# Altium footprint library Battery Holders.PcbLib: 1 footprints
Each footprint in its own frame and in the unit in brackets; x right, y up, seen from the top. Pads: shape width x height; smd on the part's side, far side on the other; paste and mask are expansions set on the pad; w line width, h text height; cw(c..) or ccw(c..) is an arc to the next point about the centre after c.
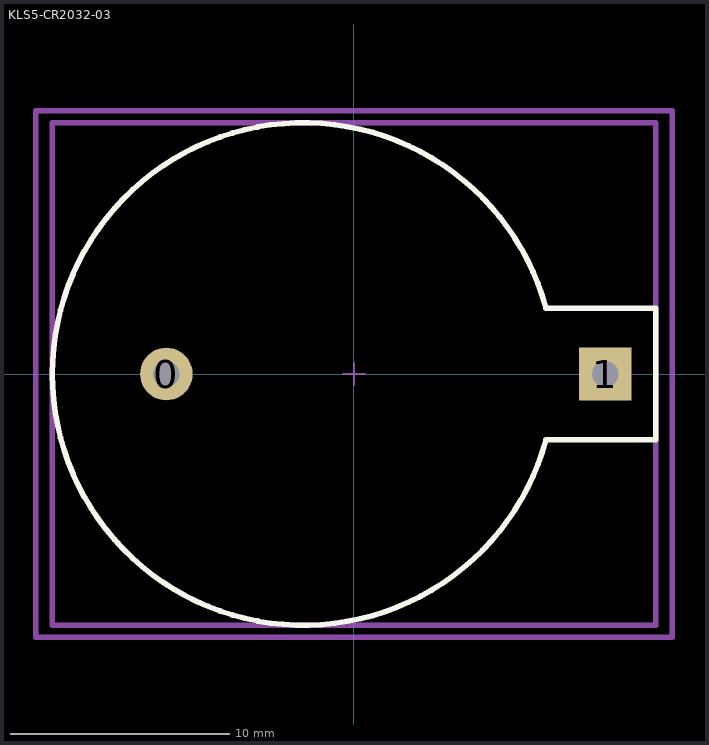
[diagram p0: the footprint, top view; thin cyan lines are the x and y axes]

## KLS5-CR2032-03 [mm] "Chip Resistor, 2-Leads, Body 2,00x1,25mm, IPC Medium Density"
height 0.5
pads (2):
  round 2.4 hole 1.2: 0(-8.55,0)
  rect 2.4x2.4 hole 1.2: 1(11.45,0)
Top Overlay:
  lines w0.254: 8.75,-3 cw(c-2.3,0) 8.75,3 13.75,3 13.75,0 13.75,-3 8.75,-3
Mechanical 13:
  lines w0.254: -13.75,-11.45 13.75,-11.45 13.75,11.45 -13.75,11.45 -13.75,-11.45
Mechanical 15:
  lines w0.1: -0.5,0 0.5,0 ; 0,-0.5 0,0.5
  lines w0.254: -14.5,-12 14.5,-12 14.5,12 -14.5,12 -14.5,-12
3D body "KLS5-CR2032.stp": height 10.41, standoff -2.8, extent -13.75,-11.45 13.75,11.45